# Altium schematic symbol library TPS389006ADJRTER.SchLib: 1 symbol
Pins are listed as number, name and electrical type; pins without a type are passive.

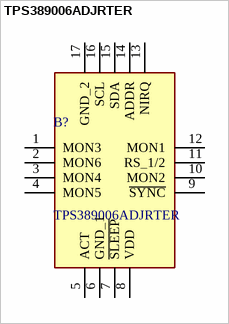
[diagram p0: symbol TPS389006ADJRTER]

## TPS389006ADJRTER
designator B?
Supervisory Circuits Multichannel overvoltage and undervoltage IC programmable voltage supervisor 16-WQFN -40 to 125; Manufacturer_Name: Texas Instruments; Geometry.Height: 0.8mm; Mouser Part Number: 595-TPS389006ADJRTER; Mouser Price/Stock: https://www.mouser.co.uk/ProductDetail/Texas-Instruments/TPS389006ADJRTER?qs=1Kr7Jg1SGW%2FXzoFRuc4x8A%3D%3D; Manufacturer_Part_Number: TPS389006ADJRTER; Datasheet Link: https://www.ti.com/lit/ds/symlink/tps389006-q1.pdf?ts=1707388080315&ref_url=https%253A%252F%252Fwww.ti.com%252Fproduct%252FTPS389006-Q1
footprint QFN50P300X300X80-17N-D
pins: 1 MON3, 2 MON6, 3 MON4, 4 MON5, 5 ACT, 6 GND_1, 7 ~{SLEEP}, 8 VDD, 9 ~{SYNC}, 10 MON2, 11 RS_1/2, 12 MON1, 13 NIRQ, 14 ADDR, 15 SDA, 16 SCL, 17 GND_2